# Altium schematic symbol library 06035A200JAT2A.SchLib: 1 symbol
Pins are listed as number, name and electrical type; pins without a type are passive.

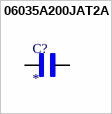
[diagram p0: symbol 06035A200JAT2A]

## 06035A200JAT2A
designator C?
CAP CER 20PF 50V C0G/NP0 0603; MF: {'manufacturer': u'AVX'}; MP: 06035A200JAT2A; Package: None; Price: None; Value: *; Availability: Unavailable
footprint CAPC1608X90N
pins: 1, 2